# EAGLE library part ADXL345 (library m_ic-signal)
ADXL345 3-Axis, ±2 g/±4 g/±8 g/±16 g Digital Accelerometer FEATURES Ultralow power: as low as 23 μA in measurement mode and 0.1 μA in standby mode at VS = 2.5 V (typical) Power consumption scales automatically with bandwidth User-selectable resolution Fixed 10-bit resolution Full resolution, where resolution increases with g range, up to 13-bit resolution at ±16 g (maintaining 4 mg/LSB scale factor in all g ranges) Patent pending, embedded memory management system with FIFO technology minimizes host processor load Single tap/double tap detection Activity/inactivity monitoring Free-fall detection Supply voltage range: 2.0 V to 3.6 V I/O voltage range: 1.7 V to VS SPI (3- and 4-wire) and I2C digital interfaces Flexible interrupt modes mappable to either interrupt pin Measurement ranges selectable via serial command Bandwidth selectable via serial command Wide temperature range (−40°C to +85°C) 10,000 g shock survival Pb free/RoHS compliant Small and thin: 3 mm × 5 mm × 1 mm LGA package Added 6/22/2012, datasheet revision C.
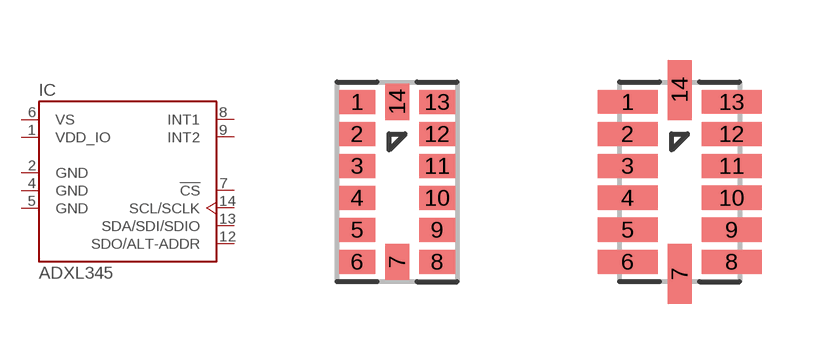
[diagram p8: symbol with the pads of LGA-14; footprints LGA-14, LGA-14-LARGEPAD]

Designator prefix IC

## ADXL345BCCZ  [LGA-14]
1  VDD_IO  pas
2  GND  pas
4  GND  pas
5  GND  pas
6  VS  pas
7  !CS  pas
8  INT1  pas
9  INT2  pas
12  SDO/ALT-ADDR  pas
13  SDA/SDI/SDIO  pas
14  SCL/SCLK  pas

## ADXL345BCCZ-HANDSOLDER (MANUF: Analog Devices; PARTNUM: ADXL345BCCZ)  [LGA-14-LARGEPAD]
Pads as for LGA-14

## Footprint LGA-14 (pad centres in mm)
smd 0.9 x 0.6: 1 -1,2; 2 -1,1.2; 3 -1,0.4; 4 -1,-0.4; 5 -1,-1.2; 6 -1,-2; 8 1,-2; 9 1,-1.2; 10 1,-0.4; 11 1,0.4; 12 1,1.2; 13 1,2
smd 0.6 x 0.9: 7 0,-2; 14 0,2

## Footprint LGA-14-LARGEPAD (pad centres in mm)
smd 1.5 x 0.6: 1 -1.3,2; 2 -1.3,1.2; 3 -1.3,0.4; 4 -1.3,-0.4; 5 -1.3,-1.2; 6 -1.3,-2; 8 1.3,-2; 9 1.3,-1.2; 10 1.3,-0.4; 11 1.3,0.4; 12 1.3,1.2; 13 1.3,2
smd 0.6 x 1.5: 7 0,-2.3; 14 0,2.3